# Altium footprint library IOPAD.PcbLib: 1 footprints
Each footprint in its own frame and in the unit in brackets; x right, y up, seen from the top. Pads: shape width x height; smd on the part's side, far side on the other; paste and mask are expansions set on the pad; w line width, h text height; cw(c..) or ccw(c..) is an arc to the next point about the centre after c.
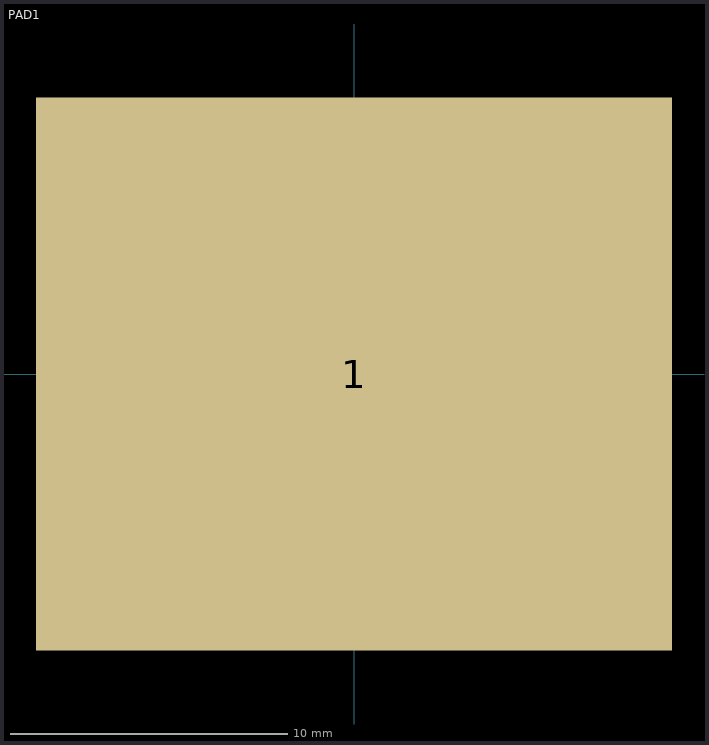
[diagram p0: the footprint, top view; thin cyan lines are the x and y axes]

## PAD1 [mm]
pads (1):
  rect 23x20 smd: 1(0,0)
3D body: height 16.02, standoff 0, extent -9.525,-8.001 9.525,8.001